# Altium schematic symbol library 35V 680uF cap.SchLib: 1 symbol
Pins are listed as number, name and electrical type; pins without a type are passive.

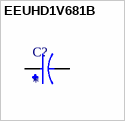
[diagram p0: symbol EEUHD1V681B]

## EEUHD1V681B
designator C?
CAP ALUM 680UF 20% 35V RADIAL; MF: Panasonic; MP: EEU-HD1V681B; Package: RADIAL-2 Panasonic; Price: None; Check_prices: https://www.snapeda.com/parts/EEU-HD1V681B/Panasonic/view-part/?ref=eda; Value: *; SnapEDA_Link: https://www.snapeda.com/parts/EEU-HD1V681B/Panasonic/view-part/?ref=snap; Availability: In Stock; Purchase-URL: https://pricing.snapeda.com/search?q=EEU-HD1V681B&ref=eda
footprint CAPPRD500W60D1000H1600
pins: N, P